# EAGLE library part ARDUINO_MICRO (library arduino-micro (2))
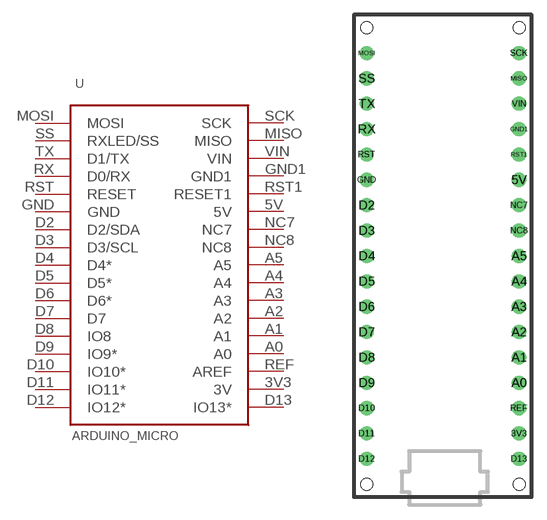
[diagram p0: symbol with the pads of ARDUINO-MICRO; footprint ARDUINO-MICRO]

Designator prefix -

## ARDUINO_MICROFOOTPRINT  [ARDUINO-MICRO]
3V3  3V
5V  5V
A0  A0
A1  A1
A2  A2
A3  A3
A4  A4
A5  A5
D2  D2/SDA
D3  D3/SCL
D4  D4*
D5  D5*
D6  D6*
D7  D7
D8  IO8
D9  IO9*
D10  IO10*
D11  IO11*
D12  IO12*
D13  IO13*
GND  GND
GND1  GND1
MISO  MISO
MOSI  MOSI
NC7  NC7
NC8  NC8
REF  AREF
RST  RESET
RST1  RESET1
RX  D0/RX
SCK  SCK
SS  RXLED/SS
TX  D1/TX
VIN  VIN

## Footprint ARDUINO-MICRO (pad centres in mm)
drill 0.9: 3V3 16.51,3.81; 5V 16.51,29.21; A0 16.51,8.89; A1 16.51,11.43; A2 16.51,13.97; A3 16.51,16.51; A4 16.51,19.05; A5 16.51,21.59; D2 1.27,26.67; D3 1.27,24.13; D4 1.27,21.59; D5 1.27,19.05; D6 1.27,16.51; D7 1.27,13.97; D8 1.27,11.43; D9 1.27,8.89; D10 1.27,6.35; D11 1.27,3.81; D12 1.27,1.27; D13 16.51,1.27; GND 1.27,29.21; GND1 16.51,34.29; MISO 16.51,39.37; MOSI 1.27,41.91; NC7 16.51,26.67; NC8 16.51,24.13; REF 16.51,6.35; RST 1.27,31.75; RST1 16.51,31.75; RX 1.27,34.29; SCK 16.51,41.91; SS 1.27,39.37; TX 1.27,36.83; VIN 16.51,36.83
hole 1.2 at 1.27,-1.27
hole 1.2 at 16.51,-1.27
hole 1.2 at 1.27,44.45
hole 1.2 at 16.51,44.45